# Altium footprint library BM05B-GHS-TBT.PcbLib: 1 footprints
Each footprint in its own frame and in the unit in brackets; x right, y up, seen from the top. Pads: shape width x height; smd on the part's side, far side on the other; paste and mask are expansions set on the pad; w line width, h text height; cw(c..) or ccw(c..) is an arc to the next point about the centre after c.
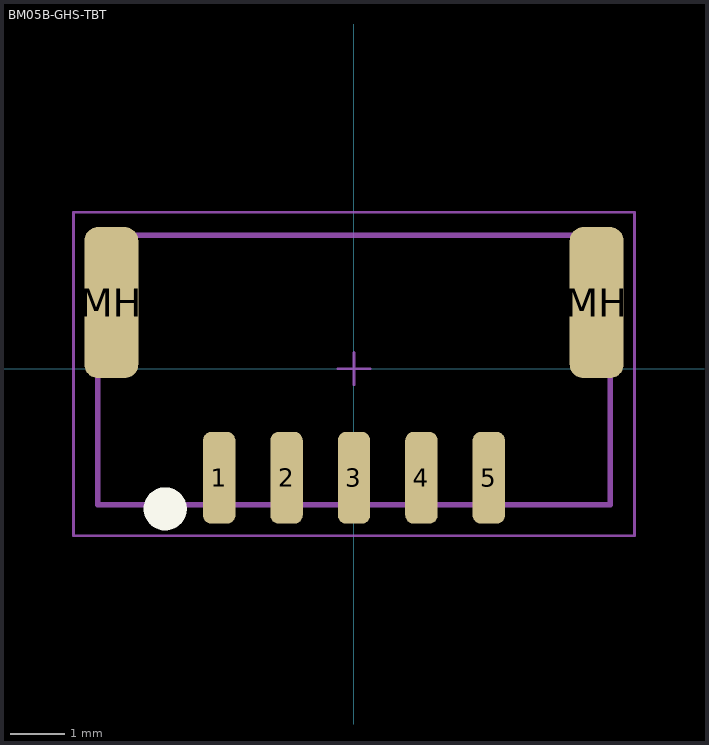
[diagram p0: the footprint, top view; thin cyan lines are the x and y axes]

## BM05B-GHS-TBT [mm]
pads (7):
  rrect50% 0.6x1.7 smd mask+0.05: 1(-2.5,-2.025) 2(-1.25,-2.025) 3(0,-2.025) 4(1.25,-2.025) 5(2.5,-2.025)
  rrect50% 1x2.8 smd mask+0.05: MH(-4.5,1.225) MH(4.5,1.225)
Top Overlay:
  circle w0.4: c-3.5,-2.6 r0.2
Top Assembly:
  lines w0.1: -4.75,-2.525 4.75,-2.525 4.75,2.475 -4.75,2.475 -4.75,-2.525
Top Courtyard:
  lines w0.05: -0.3,0 0.3,0 ; 0,-0.3 0,0.3 ; -5.2,-3.1 5.2,-3.1 5.2,2.9 -5.2,2.9 -5.2,-3.1
3D body "BM05B-GHS-TBT.STEP": height 4.18, standoff -0.03, extent -4.75,-2.475 4.75,2.475